# EAGLE library part IMU_LSM9DS1TR (library custom)
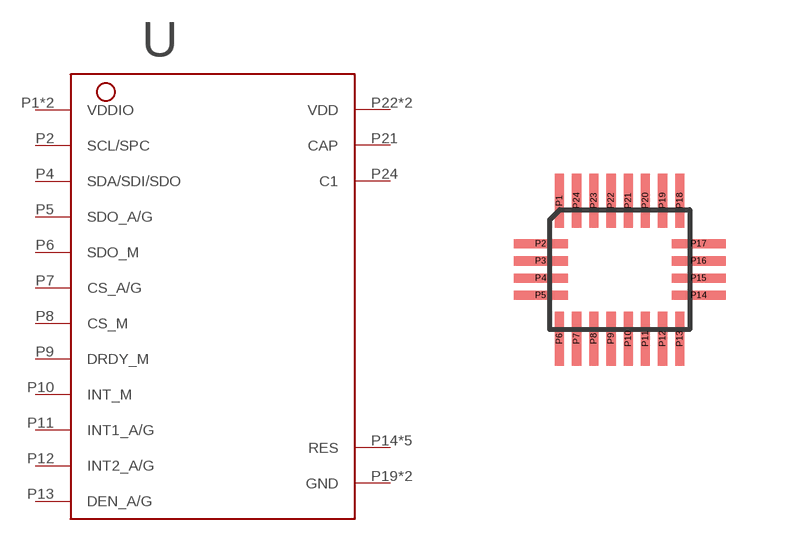
[diagram p0: symbol with the pads of IMU_LSM9DS1TR; footprint IMU_LSM9DS1TR]

Designator prefix -

## IMU_LSM9DS1TR (CREATOR: AGONZALES; DIST: DIGIKEY; DISTPN: 497-14946-1-ND; MFR: STMicroelectronics)  [IMU_LSM9DS1TR]
P1  VDDIO
P2  SCL/SPC
P3  VDDIO
P4  SDA/SDI/SDO
P5  SDO_A/G
P6  SDO_M
P7  CS_A/G
P8  CS_M
P9  DRDY_M
P10  INT_M
P11  INT1_A/G
P12  INT2_A/G
P13  DEN_A/G
P14  RES
P15  RES
P16  RES
P17  RES
P18  RES
P19  GND
P20  GND
P21  CAP
P22  VDD
P23  VDD
P24  C1

## Footprint IMU_LSM9DS1TR (pad centres in mm)
smd 0.23 x 1.35: P1 -1.505,1.725; P6 -1.505,-1.725; P7 -1.075,-1.725; P8 -0.645,-1.725; P9 -0.215,-1.725; P10 0.215,-1.725; P11 0.645,-1.725; P12 1.075,-1.725; P13 1.505,-1.725; P18 1.505,1.725; P19 1.075,1.725; P20 0.645,1.725; P21 0.215,1.725; P22 -0.215,1.725; P23 -0.645,1.725; P24 -1.075,1.725
smd 1.35 x 0.23: P2 -1.975,0.645; P3 -1.975,0.215; P4 -1.975,-0.215; P5 -1.975,-0.645; P14 1.975,-0.645; P15 1.975,-0.215; P16 1.975,0.215; P17 1.975,0.645